# Altium schematic symbol library Schematics_Connectors.SchLib: 18 symbols
Pins are listed as number, name and electrical type; pins without a type are passive.

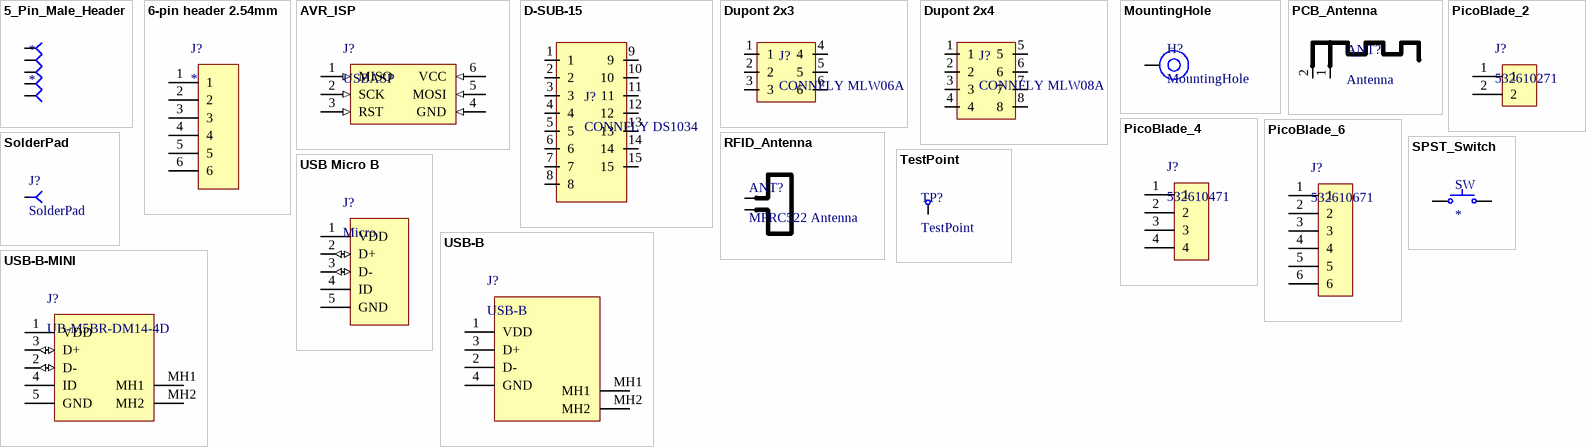
[diagram p0: symbols 5_Pin_Male_Header to USB-B-MINI]

## 5_Pin_Male_Header
designator *
footprint 5_Pin_Male_Header
pins: 1, 2, 3, 4, 5

## 6-pin header 2.54mm
designator J?
footprint 6_pin_2.54
pins: 1, 2, 3, 4, 5, 6

## AVR_ISP
designator J?, comment USBASP
Programmer connector
footprint AVR_ISP
pins: 1 MISO (in), 2 SCK (in), 3 RST (in), 4 GND (in), 5 MOSI (in), 6 VCC (in)

## D-SUB-15
designator J?, comment CONNFLY DS1034
CONNFLY DS1034-15FUTSiSS konektor D-SUB 15; ComponentLink1Description: GME; ComponentLink1URL: https://www.gme.cz/v/1501685/kls-215-15-m-b-konektor-d-sub-15
footprint CONNFLY DS1034
pins: 1, 2, 3, 4, 5, 6, 7, 8, 9, 10, 11, 12, 13, 14, 15

## Dupont 2x3
designator J?, comment CONNFLY MLW06A
CONNFLY MLW06A konektor vidlice rozteč 2,54mm, 2x3piny, do DPS/90°; ComponentLink1Description: GME; ComponentLink1URL: https://www.gme.cz/v/1502491/connfly-mlw06a-konektor-vidlice-roztec-254mm-2x3piny-do-dps-90
footprint Dupont 2x3
pins: 1, 2, 3, 4, 5, 6

## Dupont 2x4
designator J?, comment CONNFLY MLW08A
CONNFLY MLW08A konektor vidlice rozteč 2,54mm, 2x4piny, do DPS/90°; ComponentLink1Description: GME; ComponentLink1URL: https://www.gme.cz/v/1496661/connfly-mlw08a-konektor-vidlice-roztec-254mm-2x4piny-do-dps-90
footprint Dupont 2x4
pins: 1, 2, 3, 4, 5, 6, 7, 8

## MountingHole
designator H?
Mounting Hole
footprint MountinHoleM3
pins: 1

## PCB_Antenna
designator ANT?, comment Antenna  (net tie, no BOM)
Inverted F PCB Antenna
footprint PCB_Antenna
pins: 1, 2

## PicoBlade_2
designator J?, comment 532610271
Zásuvka; kabel-pl.spoj; vidlice; PicoBlade™; 1,25mm; PIN: 2; SMT; 1A; ComponentLink1Description: TME; ComponentLink1URL: https://www.tme.eu/cz/details/mx-53261-0271/signalove-konektory-raster-1-25mm/molex/532610271/
footprint Molex_Picoblade_2pin
pins: 1, 2

## PicoBlade_4
designator J?, comment 532610471
Zásuvka; kabel-pl.spoj; vidlice; PicoBlade™; 1,25mm; PIN: 4; SMT; 1A; ComponentLink1Description: TME; ComponentLink1URL: https://www.tme.eu/cz/details/mx-53261-0471/signalove-konektory-raster-1-25mm/molex/532610471/
footprint MOLEX_PICOBLADE_4Pin
pins: 1, 2, 3, 4

## PicoBlade_6
designator J?, comment 532610671
Zásuvka; kabel-pl.spoj; vidlice; PicoBlade™; 1,25mm; PIN: 6; SMT; 1A; ComponentLink1Description: TME; ComponentLink1URL: https://www.tme.eu/cz/details/mx-53261-0671/signalove-konektory-raster-1-25mm/molex/532610671/
footprint Molex_Picoblade_6pin
pins: 1, 2, 3, 4, 5, 6

## RFID_Antenna
designator ANT?, comment MFRC522 Antenna
Matching for MRFC522
footprint RFID_Antenna
pins: 1, 2

## SolderPad
designator J?
footprint TH_PAD
pins: 1

## SPST_Switch
designator SW
footprint EVP-BV4C1L000
pins: 1, 2

## TestPoint
designator TP?
footprint Pad_2.5mm
pins: 1

## USB Micro B
designator J?, comment Micro
USB B Micro; Manufacturer Part: 105017-0001; ComponentLink1Description: Kondik; ComponentLink1URL: https://www.kondik.cz/konektor-usb-2-0-micro-b-105017-0001/; ComponentLink2Description: Mouser; ComponentLink2URL: https://cz.mouser.com/ProductDetail/Molex/105017-0001?qs=hlXxxvYE36k7QcsR97GUKA%3D%3D; ComponentLink3Description: Datasheet; ComponentLink3URL: https://www.molex.com/content/dam/molex/molex-dot-com/products/automated/en-us/salesdrawingpdf/105/105017/1050170001_sd.pdf
footprint USB_B_Micro
pins: 1 VDD (power), 2 D+ (io), 3 D- (io), 4 ID, 5 GND (power)

## USB-B
designator J?
924 KEYSTONE
footprint USB-B
pins: 1 VDD, 2 D-, 3 D+, 4 GND, MH1, MH2

## USB-B-MINI
designator J?, comment UB-M5BR-DM14-4D
ComponentLink1Description: TME; ComponentLink1URL: https://www.tme.eu/cz/details/ub-m5br-dm14-4d/konektory-usb-a-ieee1394/jst/ub-m5br-dm14-4d-lf-sn-l/
footprint USB-B-MINI
pins: 1 VDD (power), 2 D- (io), 3 D+ (io), 4 ID, 5 GND (power), MH1, MH2